# Altium schematic symbol library LCboardPCB.SCHLIB: 9 symbols
Pins are listed as number, name and electrical type; pins without a type are passive.

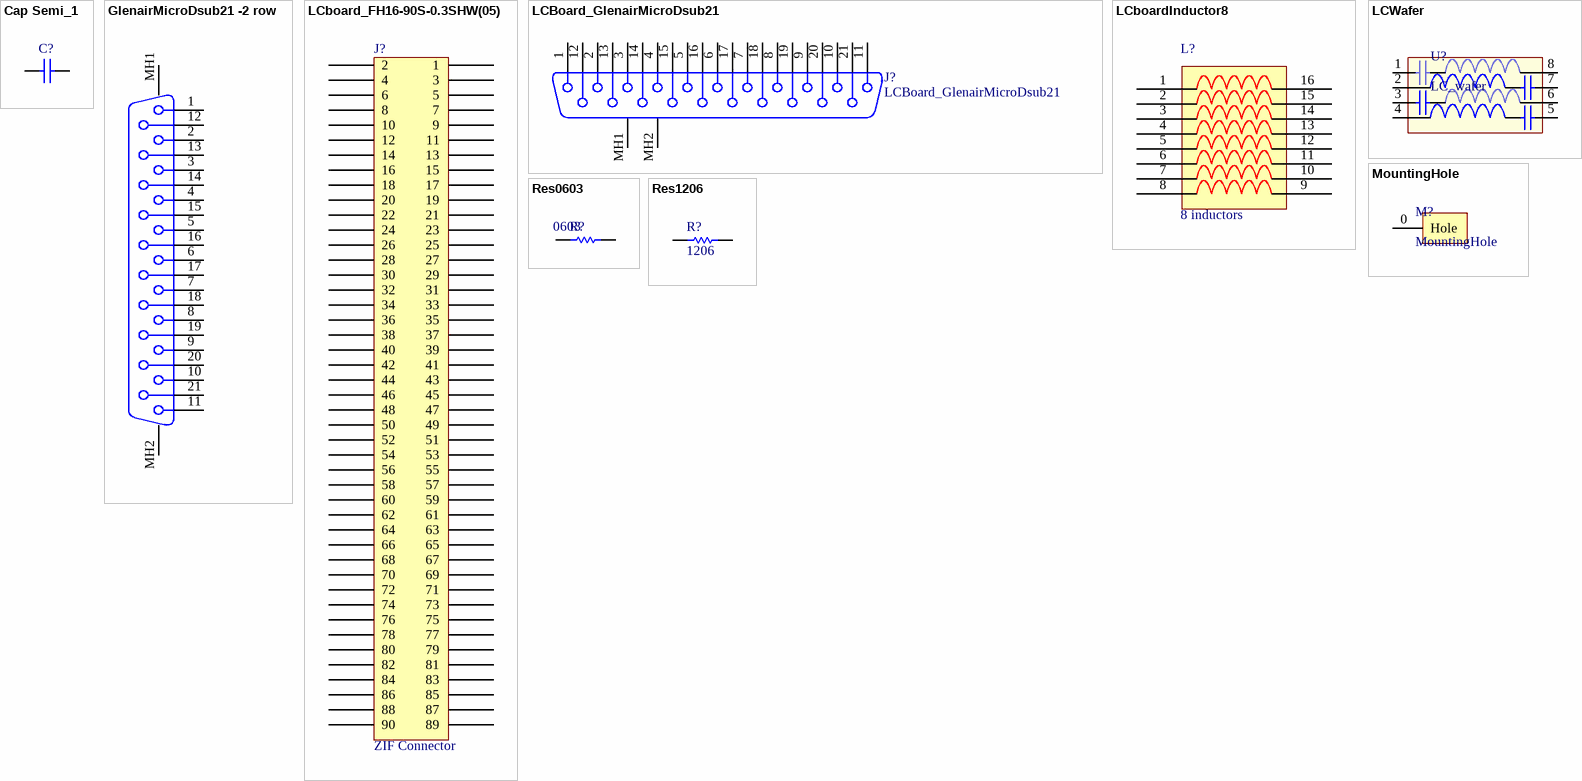
[diagram p0: symbols Cap Semi_1 to Res1206]

## Cap Semi_1
designator C?, comment 47nF  (value not drawn)
Capacitor (Semiconductor SIM Model); Published: 8-Jun-2000; LatestRevisionDate: 17-Jul-2002; LatestRevisionNote: Re-released for DXP Platform.; PackageReference: C1206; Publisher: Altium Limited
footprint CC3216-1206 (Chip Capacitor; Body 3.2 x 1.6 mm (LxW typ))
footprint CC1005-0402 (Chip Capacitor; Body 1.0 x 0.5 mm (LxW typ))
footprint CC1310-0504 (Chip Capacitor; Body 1.2 x 1.0 mm (LxW typ))
footprint CC1608-0603 (Chip Capacitor; Body 1.6 x 0.8 mm (LxW typ))
footprint CC3225-1210 (Chip Capacitor; Body 3.2 x 2.5 mm (LxW typ))
simulation model CAP (Semiconductor Capacitor)
signal-integrity model Cap Semi
pins: 1, 2

## GlenairMicroDsub21 -2 row
designator J?, comment Glenair MWDM2L-21PBS-.110
GlenairMicroDsub21 -2 row
footprint MicroD21Glenair-Vert2row
pins: 1, 2, 3, 4, 5, 6, 7, 8, 9, 10, 11, 12, 13, 14, 15, 16, 17, 18, 19, 20, 21, MH1, MH2

## LCboard_FH16-90S-0.3SHW(05)
designator J?, comment ZIF Connector
footprint LCBoard_ZIFCon (HFP190CT-ND)
pins: 1, 2, 3, 4, 5, 6, 7, 8, 9, 10, 11, 12, 13, 14, 15, 16, 17, 18, 19, 20, 21, 22, 23, 24, 25, 26, 27, 28, 29, 30, 31, 32, 33, 34, 35, 36, 37, 38, 39, 40, 41, 42, 43, 44, 45, 46, 47, 48, 49, 50, 51, 52, 53, 54, 55, 56, 57, 58, 59, 60, 61, 62, 63, 64, 65, 66, 67, 68, 69, 70, 71, 72, 73, 74, 75, 76, 77, 78, 79, 80, 81, 82, 83, 84, 85, 86, 87, 88, 89, 90

## LCBoard_GlenairMicroDsub21
designator J?
PackageDescription: Connector; D-Sub, Thru-Hole; 9 Position; Vertical; Body 30.81 x 9.60 x 8.20 mm (LxWxH)
signal-integrity model D Subminiature
footprint MicroD-MWDM2L-21SCBRP-.110 (Glenair MicroD 21 pin)
pins: 1, 2, 3, 4, 5, 6, 7, 8, 9, 10, 11, 12, 13, 14, 15, 16, 17, 18, 19, 20, 21, MH1, MH2

## LCboardInductor8
designator L?, comment 8 inductors
footprint LCboardInductor8
pins: 1, 2, 3, 4, 5, 6, 7, 8, 9, 10, 11, 12, 13, 14, 15, 16

## LCWafer
designator U?, comment LC_wafer
Gold bonded integrated LC
footprint LCWafer
pins: 1, 2, 3, 4, 5, 6, 7, 8

## MountingHole
designator M?
footprint MountingHole
pins: 0 Hole

## Res0603
designator R?, comment 0603
RES 1 OHM 1/10W 1% 0603 SMD; Value: 1; TechInfo: *
simulation model RESISTOR (Resistor)
signal-integrity model Res
footprint 0603
pins: 1, 2

## Res1206
designator R?  Footprint: 1206
Resistor; Param1: 100ppm/C; Value: DNL; Param: 1%; TechInfo: *
simulation model RESISTOR (Resistor)
signal-integrity model Res
footprint CR1608-0603M (Chip Resistor; Body 1.6 x 0.8 mm (LxW typ))
footprint 1206
pins: 1, 2